# Altium footprint library LDO Footprint.PcbLib: 1 footprints
Each footprint in its own frame and in the unit in brackets; x right, y up, seen from the top. Pads: shape width x height; smd on the part's side, far side on the other; paste and mask are expansions set on the pad; w line width, h text height; cw(c..) or ccw(c..) is an arc to the next point about the centre after c.
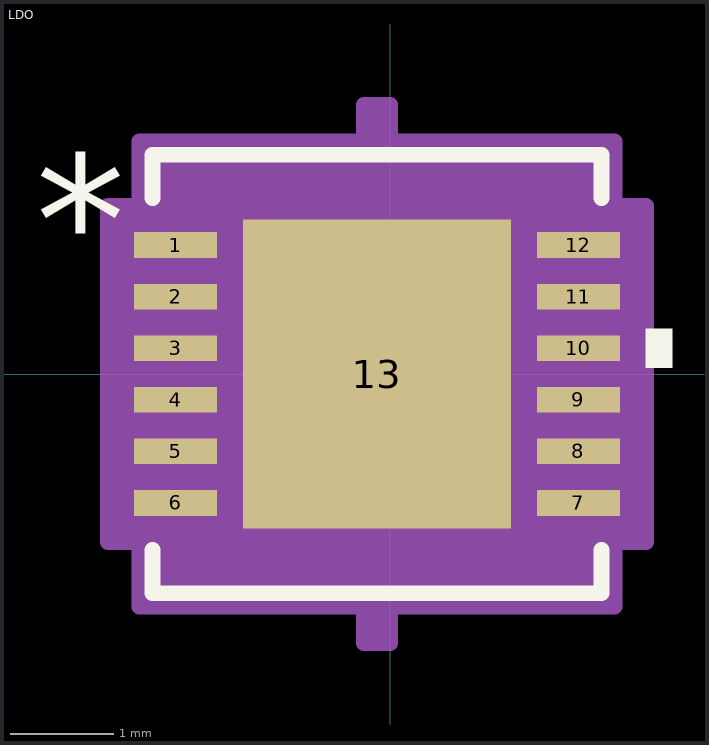
[diagram p0: the footprint, top view; thin cyan lines are the x and y axes]

## LDO [mm]
pads (13):
  rect 0.805x0.249 smd paste+0 mask+0: 1(-2.079,1.25) 2(-2.079,0.75) 3(-2.079,0.25) 4(-2.079,-0.25) 5(-2.079,-0.75) 6(-2.079,-1.25) 7(1.825,-1.25) 8(1.825,-0.75) 9(1.825,-0.25) 10(1.825,0.25) 11(1.825,0.75) 12(1.825,1.25)
  rect 2.6x3 smd paste-1.487 mask-1.486: 13(-0.127,0)
Top Overlay:
  region: 2.482,0.44 2.736,0.44 2.736,0.059 2.482,0.059
  lines w0.152: -2.304,-1.707 -2.304,-2.127 2.05,-2.127 2.05,-1.707 ; -2.304,1.707 -2.304,2.127 2.05,2.127 2.05,1.707
  text "*" at -3.434,0.865 h1.27
Top Paste:
  drawing of 16 lines, arcs and shapes, not listed
Top Solder:
  region: -1.49,0.987 -1.49,1.563 1.236,1.563 1.236,0.987
  region: -1.49,0.2 -1.49,0.587 1.236,0.587 1.236,0.2
  region: -1.49,-0.587 -1.49,-0.2 1.236,-0.2 1.236,-0.587
  region: -1.49,-1.563 -1.49,-0.987 1.236,-0.987 1.236,-1.563
  region: -1.49,-1.563 -1.49,1.563 -1.114,1.563 -1.114,-1.563
  region: -0.327,-1.563 -0.327,1.563 -0.714,1.563 -0.714,-1.563
  region: 0.46,-1.563 0.46,1.563 0.073,1.563 0.073,-1.563
  region: 0.86,-1.563 0.86,1.563 1.236,1.563 1.236,-1.563
Mechanical 13:
  lines w0.025: -2.177,0.73 -0.907,2 ; -2.177,-2 1.923,-2 1.923,2 -2.177,2 -2.177,-2 ; -2.177,-1.4 -2.177,-1.1 -2.177,-1.4 ; -2.177,-0.9 -2.177,-0.6 -2.177,-0.9 ; -2.177,-0.4 -2.177,-0.1 -2.177,-0.4 ; -2.177,0.1 -2.177,0.4 -2.177,0.1 ; -2.177,0.6 -2.177,0.9 -2.177,0.6 ; -2.177,1.1 -2.177,1.4 -2.177,1.1 ; 1.923,-1.4 1.923,-1.1 1.923,-1.4 ; 1.923,-0.9 1.923,-0.6 1.923,-0.9 ; 1.923,-0.4 1.923,-0.1 1.923,-0.4 ; 1.923,0.1 1.923,0.4 1.923,0.1 ; 1.923,0.6 1.923,0.9 1.923,0.6 ; 1.923,1.1 1.923,1.4 1.923,1.1
  text "*" at -1.994,0.865 h1.27
Mechanical 15:
  region: -0.256,-2.254 -2.431,-2.254 -2.431,-1.629 -2.736,-1.629 -2.736,1.629 -2.431,1.629 -2.431,2.254 -0.256,2.254 -0.256,2.609 0.002,2.609 0.002,2.254 2.177,2.254 2.177,1.629 2.482,1.629 2.482,-1.629 2.177,-1.629 2.177,-2.254 0.002,-2.254 0.002,-2.609 -0.256,-2.609
  lines w0.152: -2.736,-1.629 -2.431,-1.629 -2.431,-2.254 -0.256,-2.254 -0.256,-2.609 0.002,-2.609 0.002,-2.254 2.177,-2.254 2.177,-1.629 2.482,-1.629 2.482,1.629 2.177,1.629 2.177,2.254 0.002,2.254 0.002,2.609 -0.256,2.609 -0.256,2.254 -2.431,2.254 -2.431,1.629 -2.736,1.629 -2.736,-1.629
3D body "DNT12_TEX.step": height 1.65, standoff 0, extent -2.177,-2 1.923,2